# Altium footprint library SULLINS_SBH11-PBPC-D10-ST.PcbLib: 1 footprints
Each footprint in its own frame and in the unit in brackets; x right, y up, seen from the top. Pads: shape width x height; smd on the part's side, far side on the other; paste and mask are expansions set on the pad; w line width, h text height; cw(c..) or ccw(c..) is an arc to the next point about the centre after c.
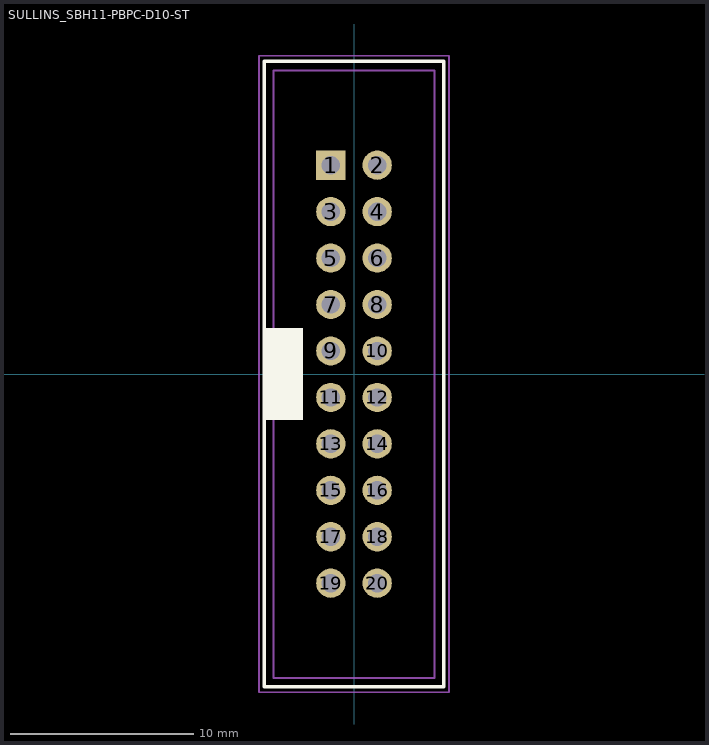
[diagram p0: the footprint, top view; thin cyan lines are the x and y axes]

## SULLINS_SBH11-PBPC-D10-ST [mm]
pads (20):
  rect 1.6x1.6 hole 1: 1(-1.27,11.43)
  round 1.6 hole 1: 2(1.27,11.43) 3(-1.27,8.89) 4(1.27,8.89) 5(-1.27,6.35) 6(1.27,6.35) 7(-1.27,3.81) 8(1.27,3.81) 9(-1.27,1.27) 10(1.27,1.27) 11(-1.27,-1.27) 12(1.27,-1.27) 13(-1.27,-3.81) 14(1.27,-3.81) 15(-1.27,-6.35) 16(1.27,-6.35) 17(-1.27,-8.89) 18(1.27,-8.89) 19(-1.27,-11.43) 20(1.27,-11.43)
Top Overlay:
  region: -4.9,2.5 -2.8,2.5 -2.8,-2.5 -4.9,-2.5
  lines w0.2: -4.9,-17.09 -4.9,17.11 4.9,17.11 4.9,-17.09 -4.9,-17.09
Mechanical 13:
  lines w0.1: -4.4,-16.61 4.4,-16.61 ; -4.4,-16.59 -4.4,16.61 4.4,16.61 4.4,-16.59 ; -4.4,-2.29 -3,-2.29 -3,2.31 -4.4,2.31
Mechanical 15:
  lines w0.1: -5.2,-17.39 5.2,-17.39 5.2,17.41 -5.2,17.41 -5.2,-17.39
3D body "SULLINS_SBH11-PBPC-D10-ST.STEP": height 9.05, standoff -3.05, extent -4.46,-16.46 4.64,16.44